# Altium footprint library Drossel.PcbLib: 60 footprints (part 2 of 4)
Each footprint in its own frame and in the unit in brackets; x right, y up, seen from the top. Pads: shape width x height; smd on the part's side, far side on the other; paste and mask are expansions set on the pad; w line width, h text height; cw(c..) or ccw(c..) is an arc to the next point about the centre after c.
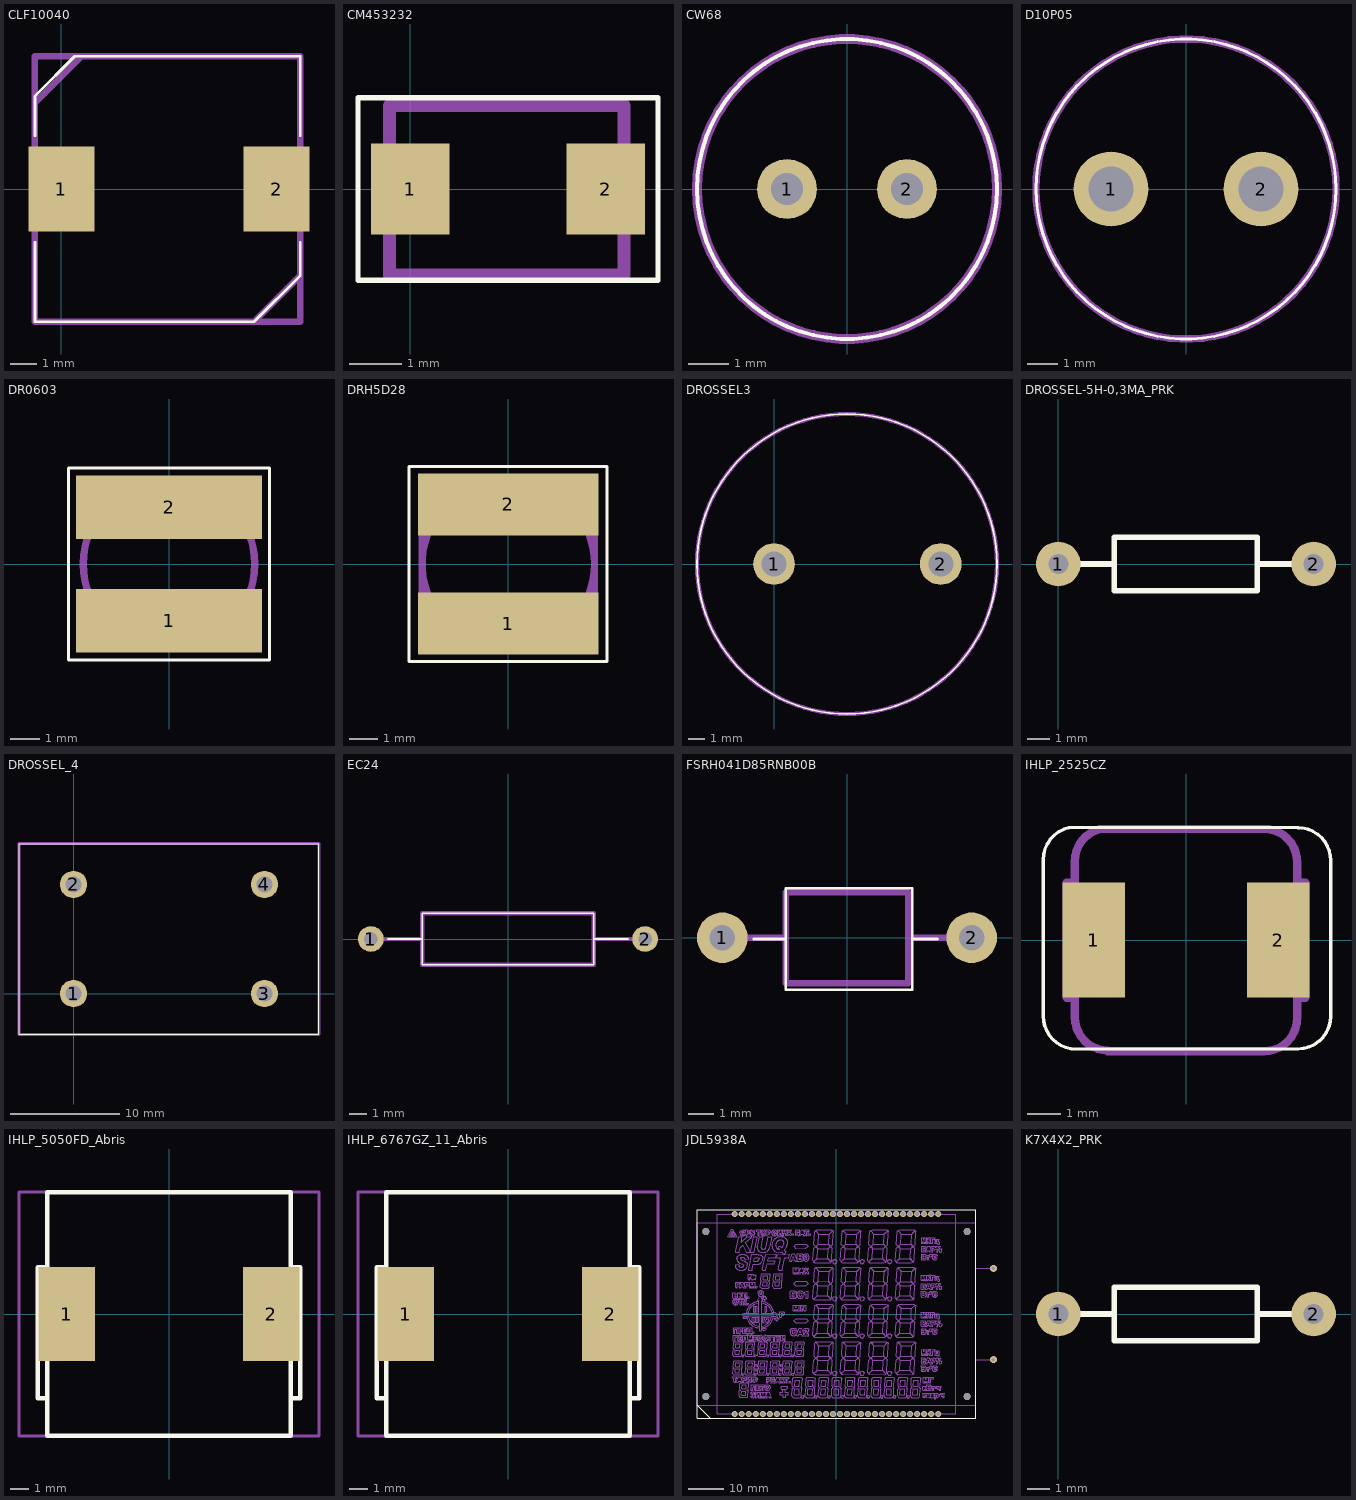
[diagram p1: the footprints below, top view; thin cyan lines are the x and y axes]

## CLF10040 [mm]
pads (2):
  rect 2.5x3.2 smd: 1(0,0) 2(8.1,0)
Top Overlay:
  lines w0.1: -1,-2 -1,-5 7.25,-5 9,-3.25 9,-2 ; -1,2 -1,3.5 0.5,5 9,5 9,2
Mechanical 1:
  lines w0.25: -1,3.25 0.75,5 ; 7.25,-5 9,-3.25 ; -1,-5 9,-5 9,5 -1,5 -1,-5

## CM453232 [mm]
pads (2):
  rect 1.5x1.75 smd: 1(0,0) 2(3.75,0)
Top Overlay:
  lines w0.1: -1,-1.75 4.75,-1.75 4.75,1.75 -1,1.75 -1,-1.75
Mechanical 1:
  lines w0.25: -0.4,-1.65 4.1,-1.65 4.1,1.6 -0.4,1.6 -0.4,-1.65

## CW68 [mm]
pads (2):
  round 1.5 hole 0.8: 1(-1.5,0) 2(1.5,0)
Top Overlay:
  lines w0.1: -3.75,0 ccw(c0,0) 3.75,0 ccw(c0,0) -3.75,0
Mechanical 1:
  lines w0.25: -3.75,0 cw(c0,0) 3.75,0 cw(c0,0) -3.75,0

## D10P05 [mm]
pads (2):
  round 2.5 hole 1.5: 1(-2.5,0) 2(2.5,0)
Top Overlay:
  lines w0.1: -5,0 cw(c0,0) 5,0 cw(c0,0) -5,0
Mechanical 1:
  lines w0.25: -5,0 ccw(c0,0) 5,0 ccw(c0,0) -5,0

## DR0603 [mm]
pads (2):
  rect 6.3x2.15 smd: 1(0,-1.925) 2(0,1.925)
Top Overlay:
  lines w0.1: -3.405,-3.25 3.405,-3.25 3.405,3.25 -3.405,3.25 -3.405,-3.25
Mechanical 1:
  circle w0.25: c1.275,-1.725 r0.225
  lines w0.25: -0.509,2.855 ccw(c0,0) -2.9,0 ccw(c0,0) -0.494,-2.858 ; -0.5,-2.85 -0.5,-2.3 cw(c0,-2.3) 0.5,-2.3 0.5,-2.85 ; -0.5,2.85 -0.5,2.3 ccw(c0,2.3) 0.5,2.3 0.5,2.85 ; 0.504,-2.856 ccw(c0,0) 2.9,0 ccw(c0,0) 0.524,2.852

## DRH5D28 [mm]
pads (2):
  rect 6.3x2.15 smd: 1(0,-2.075) 2(0,2.075)
Top Overlay:
  lines w0.1: -3.46,-3.4 3.44,-3.4 3.44,3.4 -3.46,3.4 -3.46,-3.4
Mechanical 1:
  circle w0.25: c0,0 r3
  lines w0.25: -2.75,2.5 -3,2.75 -2.75,3 -2.5,2.75 ; 2.5,-2.75 2.75,-3 3,-2.75 2.75,-2.5 ; -3,-2.5 ccw(c-2.5,-2.5) -2.5,-3 2.25,-3 3,-2.25 3,2.5 ccw(c2.5,2.5) 2.5,3 -2.25,3 -3,2.25 -3,-2.5

## DROSSEL3 [mm]
pads (2):
  round 2.5 hole 1.5: 1(0,0) 2(10,0)
Top Overlay:
  lines w0.1: -4.625,0 cw(c4.375,0) 13.375,0 cw(c4.375,0) -4.625,0
Mechanical 1:
  lines w0.25: -4.625,0 cw(c4.375,0) 13.375,0 cw(c4.375,0) -4.625,0

## DROSSEL-5H-0,3MA_PRK [mm]
pads (2):
  round 2 hole 0.9: 1(0,0) 2(11.43,0)
Top Overlay:
  lines w0.1: -0.635,0 0,0 ; 0,-0.635 0,0.635 ; 11.4,0 12.065,0 ; 11.43,-0.635 11.43,0.635
  lines w0.254: 0,0 2.5,0 ; 8.9,0 11.4,0 ; 2.5,-1.2 8.9,-1.2 8.9,1.2 2.5,1.2 2.5,-1.2

## DROSSEL_4 [mm]
pads (4):
  round 2.5 hole 1.5: 1(0,0) 2(0,10) 3(17.5,0) 4(17.5,10)
Top Overlay:
  lines w0.1: -5,-3.75 22.5,-3.75 22.5,13.75 -5,13.75 -5,-3.75
Mechanical 1:
  lines w0.25: -5,-3.75 22.5,-3.75 22.5,13.75 -5,13.75 -5,-3.75

## EC24 [mm]
pads (2):
  round 1.5 hole 0.8: 1(-8,0) 2(8,0)
Top Overlay:
  lines w0.1: -7,0 -5,0 ; 5,0 7,0 ; -5,-1.5 5,-1.5 5,1.5 -5,1.5 -5,-1.5
Mechanical 1:
  lines w0.25: -8,0 -5,0 ; 8,0 5,0 ; -5,0 -5,1.5 5,1.5 5,0 ; -5,0 -5,-1.5 5,-1.5 5,0

## FSRH041D85RNB00B [mm]
pads (2):
  round 2 hole 1: 1(-4.925,0) 2(4.925,0)
Top Overlay:
  lines w0.1: -3.675,-0.05 -2.425,-0.05 ; 2.575,-0.05 3.575,-0.05 ; -2.425,-2.05 2.575,-2.05 2.575,1.95 -2.425,1.95 -2.425,-2.05
Mechanical 1:
  lines w0.25: -4.925,0 -2.425,0 ; 2.425,0 4.925,0 ; -2.425,-1.8 2.425,-1.8 2.425,1.8 -2.425,1.8 -2.425,-1.8

## IHLP_2525CZ [mm]
pads (2):
  rect 1.9x3.5 smd: 1(-2.805,0) 2(2.805,0)
Top Overlay:
  lines w0.1: -4.335,-2.335 -4.335,2.415 ; -4.335,-2.31 ccw(c-3.335,-2.31) -3.335,-3.31 ; -4.335,2.44 cw(c-3.335,2.44) -3.56,3.414 ; -3.55,3.42 3.41,3.42 ; -3.33,-3.31 3.41,-3.31 ; 3.395,3.415 cw(c3.395,2.415) 4.395,2.415 4.395,-2.335 ; 3.404,-3.305 ccw(c3.395,-2.305) 4.395,-2.305
Mechanical 1:
  lines w0.25: -3.375,-2.375 -3.375,2.375 ; -3.375,-2.35 ccw(c-2.375,-2.35) -2.375,-3.35 ; -3.375,-1.75 -3.625,-1.75 -3.625,1.75 -3.375,1.75 ; -3.375,2.4 cw(c-2.375,2.4) -2.6,3.374 ; -2.625,3.375 2.375,3.375 cw(c2.375,2.375) 3.375,2.375 3.375,-2.375 cw(c2.375,-2.375) 2.375,-3.375 -2.375,-3.375 ; 3.375,-1.75 3.625,-1.75 3.625,1.75 3.375,1.75

## IHLP_5050FD_Abris [mm]
pads (2):
  rect 3x5 smd: 1(-5.45,0) 2(5.45,0)
Top Overlay:
  lines w0.25: -6.5,-4.5 -7,-4.5 -7,2.5 -6.5,2.5 ; 6.5,-4.5 7,-4.5 7,2.5 6.5,2.5 ; -6.5,-6.5 6.5,-6.5 6.5,6.5 -6.5,6.5 -6.5,-6.5
Mechanical 1:
  lines w0.15: -8,-6.5 8,-6.5 8,6.5 -8,6.5 -8,-6.5

## IHLP_6767GZ_11_Abris [mm]
pads (2):
  rect 3x5 smd: 1(-5.45,0) 2(5.45,0)
Top Overlay:
  lines w0.25: -6.5,-4.5 -7,-4.5 -7,2.5 -6.5,2.5 ; 6.5,-4.5 7,-4.5 7,2.5 6.5,2.5 ; -6.5,-6.5 6.5,-6.5 6.5,6.5 -6.5,6.5 -6.5,-6.5
Mechanical 1:
  lines w0.15: -8,-6.5 8,-6.5 8,6.5 -8,6.5 -8,-6.5

## JDL5938A [mm]
pads (66):
  round 1.75 hole 1.1: 1(-29,-28.5) 2(-27,-28.5) 3(-25,-28.5) 4(-23,-28.5) 5(-21,-28.5) 6(-19,-28.5) 7(-17,-28.5) 8(-15,-28.5) 9(-13,-28.5) 10(-11,-28.5) 11(-9,-28.5) 12(-7,-28.5) 13(-5,-28.5) 14(-3,-28.5) 15(-1,-28.5) 16(1,-28.5) 17(3,-28.5) 18(5,-28.5) 19(7,-28.5) 20(9,-28.5) 21(11,-28.5) 22(13,-28.5) 23(15,-28.5) 24(17,-28.5) 25(19,-28.5) 26(21,-28.5) 27(23,-28.5) 28(25,-28.5) 29(27,-28.5) 30(29,-28.5) 31(29,28.5) 32(27,28.5) 33(25,28.5) 34(23,28.5) 35(21,28.5) 36(19,28.5) 37(17,28.5) 38(15,28.5) 39(13,28.5) 40(11,28.5) 41(9,28.5) 42(7,28.5) 43(5,28.5) 44(3,28.5) 45(1,28.5) 46(-1,28.5) 47(-3,28.5) 48(-5,28.5) 49(-7,28.5) 50(-9,28.5) 51(-11,28.5) 52(-13,28.5) 53(-15,28.5) 54(-17,28.5) 55(-19,28.5) 56(-21,28.5) 57(-23,28.5) 58(-25,28.5) 59(-27,28.5) 60(-29,28.5)
  round 2 hole 1: 61(44.75,-13) 62(44.75,13)
  round 2 hole 2 unplated: 63(-37.25,-23.5) 64(37.25,-23.5) 65(37.25,23.5) 66(-37.25,23.5)
Top Overlay:
  lines w0.1: -39.75,-26 -36,-29.75 ; -39.75,-29.75 39.75,-29.75 39.75,29.75 -39.75,29.75 -39.75,-29.75
Mechanical 1:
  drawing of 24918 lines, arcs and shapes, not listed
  text "A" at 44.5,14.75 h0.94
  text "K" at 44.25,-11.5 h0.94

## K7X4X2_PRK [mm]
pads (2):
  round 2 hole 0.9: 1(0,0) 2(11.43,0)
Top Overlay:
  lines w0.1: -0.635,0 0,0 ; 0,-0.635 0,0.635 ; 11.4,0 12.065,0 ; 11.43,-0.635 11.43,0.635
  lines w0.254: 0,0 2.5,0 ; 8.9,0 11.4,0 ; 2.5,-1.2 8.9,-1.2 8.9,1.2 2.5,1.2 2.5,-1.2